# Altium footprint library Connector-CardEdge.PcbLib: 3 footprints
Each footprint in its own frame and in the unit in brackets; x right, y up, seen from the top. Pads: shape width x height; smd on the part's side, far side on the other; paste and mask are expansions set on the pad; w line width, h text height; cw(c..) or ccw(c..) is an arc to the next point about the centre after c.
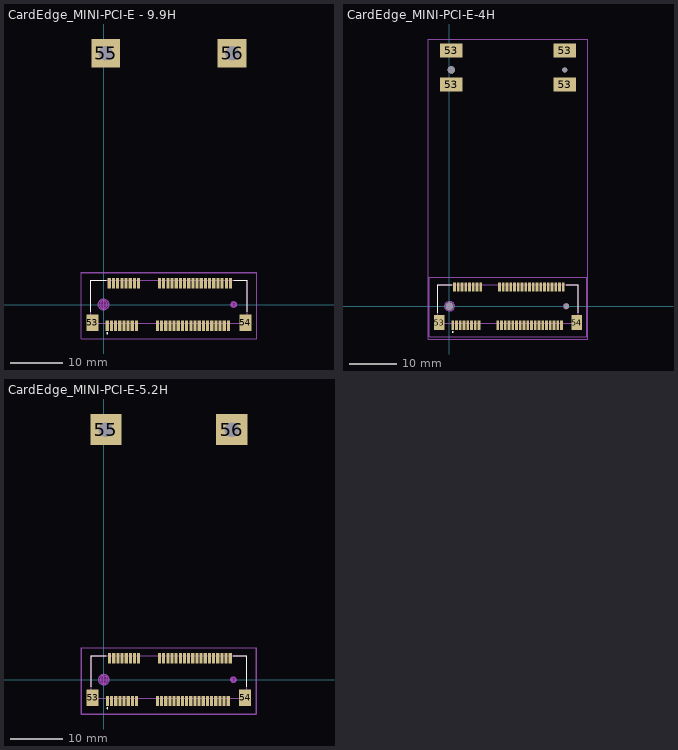
[diagram p0: the footprints below, top view; thin cyan lines are the x and y axes]

## CardEdge_MINI-PCI-E - 9.9H [mm] "MINI PCI-e 52P贴片插座，间距0.8mm 高度9mm"
pads (56):
  rect 0.6x2 smd: 1(0.7,-4.1) 2(1.1,4.1) 3(1.5,-4.1) 4(1.9,4.1) 5(2.3,-4.1) 6(2.7,4.1) 7(3.1,-4.1) 8(3.5,4.1) 9(3.9,-4.1) 10(4.3,4.1) 11(4.7,-4.1) 12(5.1,4.1) 13(5.5,-4.1) 14(5.9,4.1) 15(6.3,-4.1) 16(6.7,4.1) 17(10.3,-4.1) 18(10.7,4.1) 19(11.1,-4.1) 20(11.5,4.1) 21(11.9,-4.1) 22(12.3,4.1) 23(12.7,-4.1) 24(13.1,4.1) 25(13.5,-4.1) 26(13.9,4.1) 27(14.3,-4.1) 28(14.7,4.1) 29(15.1,-4.1) 30(15.5,4.1) 31(15.9,-4.1) 32(16.3,4.1) 33(16.7,-4.1) 34(17.1,4.1) 35(17.5,-4.1) 36(17.9,4.1) 37(18.3,-4.1) 38(18.7,4.1) 39(19.1,-4.1) 40(19.5,4.1) 41(19.9,-4.1) 42(20.3,4.1) 43(20.7,-4.1) 44(21.1,4.1) 45(21.5,-4.1) 46(21.9,4.1) 47(22.3,-4.1) 48(22.7,4.1) 49(23.1,-4.1) 50(23.5,4.1) 51(23.9,-4.1) 52(24.3,4.1)
  rect 2.3x3.2 smd: 53(-2.15,-3.5) 54(27.15,-3.5)
  rect 5.5x5.5 hole 2.8: 55(0.4,48.05) 56(24.6,48.05)
Top Overlay:
  lines w0.1: -2.45,-1.4 -2.45,4.6 0.5,4.6 ; 24.9,4.6 27.45,4.6 27.45,-1.4
  lines w0.2: 0.6,-5.5 cw(c0.7,-5.5) 0.8,-5.5 cw(c0.7,-5.5) 0.6,-5.5
Keep-Out Layer:
  board cut-out: 24.55,0 24.55,-0.09 24.619,-0.255 24.745,-0.381 24.91,-0.45 25,-0.45 25.09,-0.45 25.255,-0.381 25.381,-0.255 25.45,-0.09 25.45,0 25.45,0.09 25.381,0.255 25.255,0.381 25.09,0.45 25,0.45 24.91,0.45 24.745,0.381 24.619,0.255 24.55,0.09
  board cut-out: 0,-0.7 -0.069,-0.7 -0.204,-0.673 -0.332,-0.62 -0.446,-0.544 -0.544,-0.446 -0.62,-0.332 -0.673,-0.204 -0.7,-0.069 -0.7,0 -0.7,0.069 -0.673,0.204 -0.62,0.332 -0.544,0.446 -0.446,0.544 -0.332,0.62 -0.204,0.673 -0.069,0.7 0,0.7 0.069,0.7 0.204,0.673 0.332,0.62 0.446,0.544 0.544,0.446 0.62,0.332 0.673,0.204 0.7,0.069 0.7,0 0.7,-0.069 0.673,-0.204 0.62,-0.332 0.544,-0.446 0.446,-0.544 0.332,-0.62 0.204,-0.673 0.069,-0.7
Board Outline:
  circle w0.1: c25,0 r0.45
  circle w0.1: c0,0 r0.7
Body Extra:
  lines w0.2: -2.45,-3.6 27.45,-3.6 27.45,4.6 -2.45,4.6 -2.45,-3.6
Bottom Courtyard:
  lines w0.1: -4.3,-6.6 29.3,-6.6 29.3,6.1 -4.3,6.1 -4.3,-6.6
Mechanical 29:
  circle w0.3: c24.892,0 r0.5
  circle w0.3: c0,0 r1
  lines w0.1: -4.25,-6.525 -4.25,6.175 29.35,6.175 29.35,-6.525 -4.25,-6.525
  text "'.Designator'" at 6.604,-0.508 h1.02
3D body "mini PEI-E 9.9h.stp": height 9.92, standoff -0.63, extent -2.5,-4.55 27.5,4.67

## CardEdge_MINI-PCI-E-4H [mm] "MINI PCI-e 52P贴片插座"
pads (62):
  rect 0.6x2 smd: 1(0.7,-4.1) 2(1.1,4.1) 3(1.5,-4.1) 4(1.9,4.1) 5(2.3,-4.1) 6(2.7,4.1) 7(3.1,-4.1) 8(3.5,4.1) 9(3.9,-4.1) 10(4.3,4.1) 11(4.7,-4.1) 12(5.1,4.1) 13(5.5,-4.1) 14(5.9,4.1) 15(6.3,-4.1) 16(6.7,4.1) 17(10.3,-4.1) 18(10.7,4.1) 19(11.1,-4.1) 20(11.5,4.1) 21(11.9,-4.1) 22(12.3,4.1) 23(12.7,-4.1) 24(13.1,4.1) 25(13.5,-4.1) 26(13.9,4.1) 27(14.3,-4.1) 28(14.7,4.1) 29(15.1,-4.1) 30(15.5,4.1) 31(15.9,-4.1) 32(16.3,4.1) 33(16.7,-4.1) 34(17.1,4.1) 35(17.5,-4.1) 36(17.9,4.1) 37(18.3,-4.1) 38(18.7,4.1) 39(19.1,-4.1) 40(19.5,4.1) 41(19.9,-4.1) 42(20.3,4.1) 43(20.7,-4.1) 44(21.1,4.1) 45(21.5,-4.1) 46(21.9,4.1) 47(22.3,-4.1) 48(22.7,4.1) 49(23.1,-4.1) 50(23.5,4.1) 51(23.9,-4.1) 52(24.3,4.1)
  rect 2.3x3.2 smd: 53(-2.15,-3.5) 54(27.15,-3.5)
  rect 4.8x3 smd: 53(0.4,47.25) 53(0.4,54.5) 53(24.6,47.25) 53(24.6,54.5)
  round 1.524 hole 1.6: 55(0,0) 55(0.4,50.4)
  round 1 hole 1.1: 56(24.6,50.4) 56(25,0)
Top Overlay:
  lines w0.1: -2.45,-1.4 -2.45,4.6 0.5,4.6 ; 24.9,4.6 27.45,4.6 27.45,-1.4
  lines w0.2: 0.6,-5.5 ccw(c0.7,-5.5) 0.8,-5.5 ccw(c0.7,-5.5) 0.6,-5.5
Keep-Out Layer:
  board cut-out: 0,-0.7 -0.069,-0.7 -0.204,-0.673 -0.332,-0.62 -0.446,-0.544 -0.544,-0.446 -0.62,-0.332 -0.673,-0.204 -0.7,-0.069 -0.7,0 -0.7,0.069 -0.673,0.204 -0.62,0.332 -0.544,0.446 -0.446,0.544 -0.332,0.62 -0.204,0.673 -0.069,0.7 0,0.7 0.069,0.7 0.204,0.673 0.332,0.62 0.446,0.544 0.544,0.446 0.62,0.332 0.673,0.204 0.7,0.069 0.7,0 0.7,-0.069 0.673,-0.204 0.62,-0.332 0.544,-0.446 0.446,-0.544 0.332,-0.62 0.204,-0.673 0.069,-0.7
Top Value:
  text "'.Comment'" at 5,50.522 h3
  text "'.Comment'" at 5.5,-0.478 h3
Top Designator:
  text "'.Designator'" at 3.5,50.524 h3
  text "'.Designator'" at 3.5,-0.476 h3
Body Extra:
  lines w0.2: -2.45,-3.6 -2.45,4.6 27.45,4.6 27.45,-3.6 -2.45,-3.6
Top Assembly (Mech20):
  lines w0.2: -4.5,-7 -4.5,57 29.5,57 29.5,-7 -4.5,-7
Mechanical 29:
  circle w0.3: c0,0 r1
  circle w0.3: c24.892,0 r0.5
  lines w0.1: -4.25,-6.525 29.35,-6.525 29.35,6.175 -4.25,6.175 -4.25,-6.525
  text "'.Designator'" at 6.604,-0.508 h1.02
3D body "mini PIC-E 4H type I GF.stp": height 4, standoff -0.65, extent -2.45,-4.555 27.45,4.535
3D body "EC20 Minipcie_3DFile_20170727.stp": height 5.05, standoff 0.1, extent -2.5,0 27.5,50.95
3D body "mini-pci-e-latch.stp": height 4.85, standoff -0.7, extent -1.725,46.14 26.725,55.5

## CardEdge_MINI-PCI-E-5.2H [mm] "MINI PCI-e 52P贴片插座，间距0.8mm 高度9mm"
pads (56):
  rect 0.6x2 smd: 1(0.7,-4.1) 2(1.1,4.1) 3(1.5,-4.1) 4(1.9,4.1) 5(2.3,-4.1) 6(2.7,4.1) 7(3.1,-4.1) 8(3.5,4.1) 9(3.9,-4.1) 10(4.3,4.1) 11(4.7,-4.1) 12(5.1,4.1) 13(5.5,-4.1) 14(5.9,4.1) 15(6.3,-4.1) 16(6.7,4.1) 17(10.3,-4.1) 18(10.7,4.1) 19(11.1,-4.1) 20(11.5,4.1) 21(11.9,-4.1) 22(12.3,4.1) 23(12.7,-4.1) 24(13.1,4.1) 25(13.5,-4.1) 26(13.9,4.1) 27(14.3,-4.1) 28(14.7,4.1) 29(15.1,-4.1) 30(15.5,4.1) 31(15.9,-4.1) 32(16.3,4.1) 33(16.7,-4.1) 34(17.1,4.1) 35(17.5,-4.1) 36(17.9,4.1) 37(18.3,-4.1) 38(18.7,4.1) 39(19.1,-4.1) 40(19.5,4.1) 41(19.9,-4.1) 42(20.3,4.1) 43(20.7,-4.1) 44(21.1,4.1) 45(21.5,-4.1) 46(21.9,4.1) 47(22.3,-4.1) 48(22.7,4.1) 49(23.1,-4.1) 50(23.5,4.1) 51(23.9,-4.1) 52(24.3,4.1)
  rect 2.3x3.2 smd: 53(-2.15,-3.5) 54(27.15,-3.5)
  rect 6x6 hole 2.8: 55(0.4,48.05) 56(24.6,48.05)
Top Overlay:
  lines w0.1: -2.45,-1.4 -2.45,4.6 0.5,4.6 ; 24.9,4.6 27.45,4.6 27.45,-1.4
  lines w0.2: 0.6,-5.5 cw(c0.7,-5.5) 0.8,-5.5 cw(c0.7,-5.5) 0.6,-5.5
Keep-Out Layer:
  board cut-out: 24.55,0 24.55,-0.09 24.619,-0.255 24.745,-0.381 24.91,-0.45 25,-0.45 25.09,-0.45 25.255,-0.381 25.381,-0.255 25.45,-0.09 25.45,0 25.45,0.09 25.381,0.255 25.255,0.381 25.09,0.45 25,0.45 24.91,0.45 24.745,0.381 24.619,0.255 24.55,0.09
  board cut-out: 0,-0.7 -0.069,-0.7 -0.204,-0.673 -0.332,-0.62 -0.446,-0.544 -0.544,-0.446 -0.62,-0.332 -0.673,-0.204 -0.7,-0.069 -0.7,0 -0.7,0.069 -0.673,0.204 -0.62,0.332 -0.544,0.446 -0.446,0.544 -0.332,0.62 -0.204,0.673 -0.069,0.7 0,0.7 0.069,0.7 0.204,0.673 0.332,0.62 0.446,0.544 0.544,0.446 0.62,0.332 0.673,0.204 0.7,0.069 0.7,0 0.7,-0.069 0.673,-0.204 0.62,-0.332 0.544,-0.446 0.446,-0.544 0.332,-0.62 0.204,-0.673 0.069,-0.7
Board Outline:
  circle w0.1: c25,0 r0.45
  circle w0.1: c0,0 r0.7
Body Extra:
  lines w0.2: -2.45,-3.6 27.45,-3.6 27.45,4.6 -2.45,4.6 -2.45,-3.6
Bottom Courtyard:
  lines w0.1: -4.3,-6.6 29.3,-6.6 29.3,6.1 -4.3,6.1 -4.3,-6.6
Mechanical 29:
  circle w0.3: c24.892,0 r0.5
  circle w0.3: c0,0 r1
  lines w0.1: -4.25,-6.525 -4.25,6.175 29.35,6.175 29.35,-6.525 -4.25,-6.525
  text "'.Designator'" at 6.604,-0.508 h1.02
3D body "mini PCI-E 5.6H.stp": height 5.77, standoff -0.48, extent -2.45,-4.555 27.45,4.525